# Altium integrated library Infineon_Power_DC-DC-Converter.IntLib: 32 symbols (part 2 of 3)
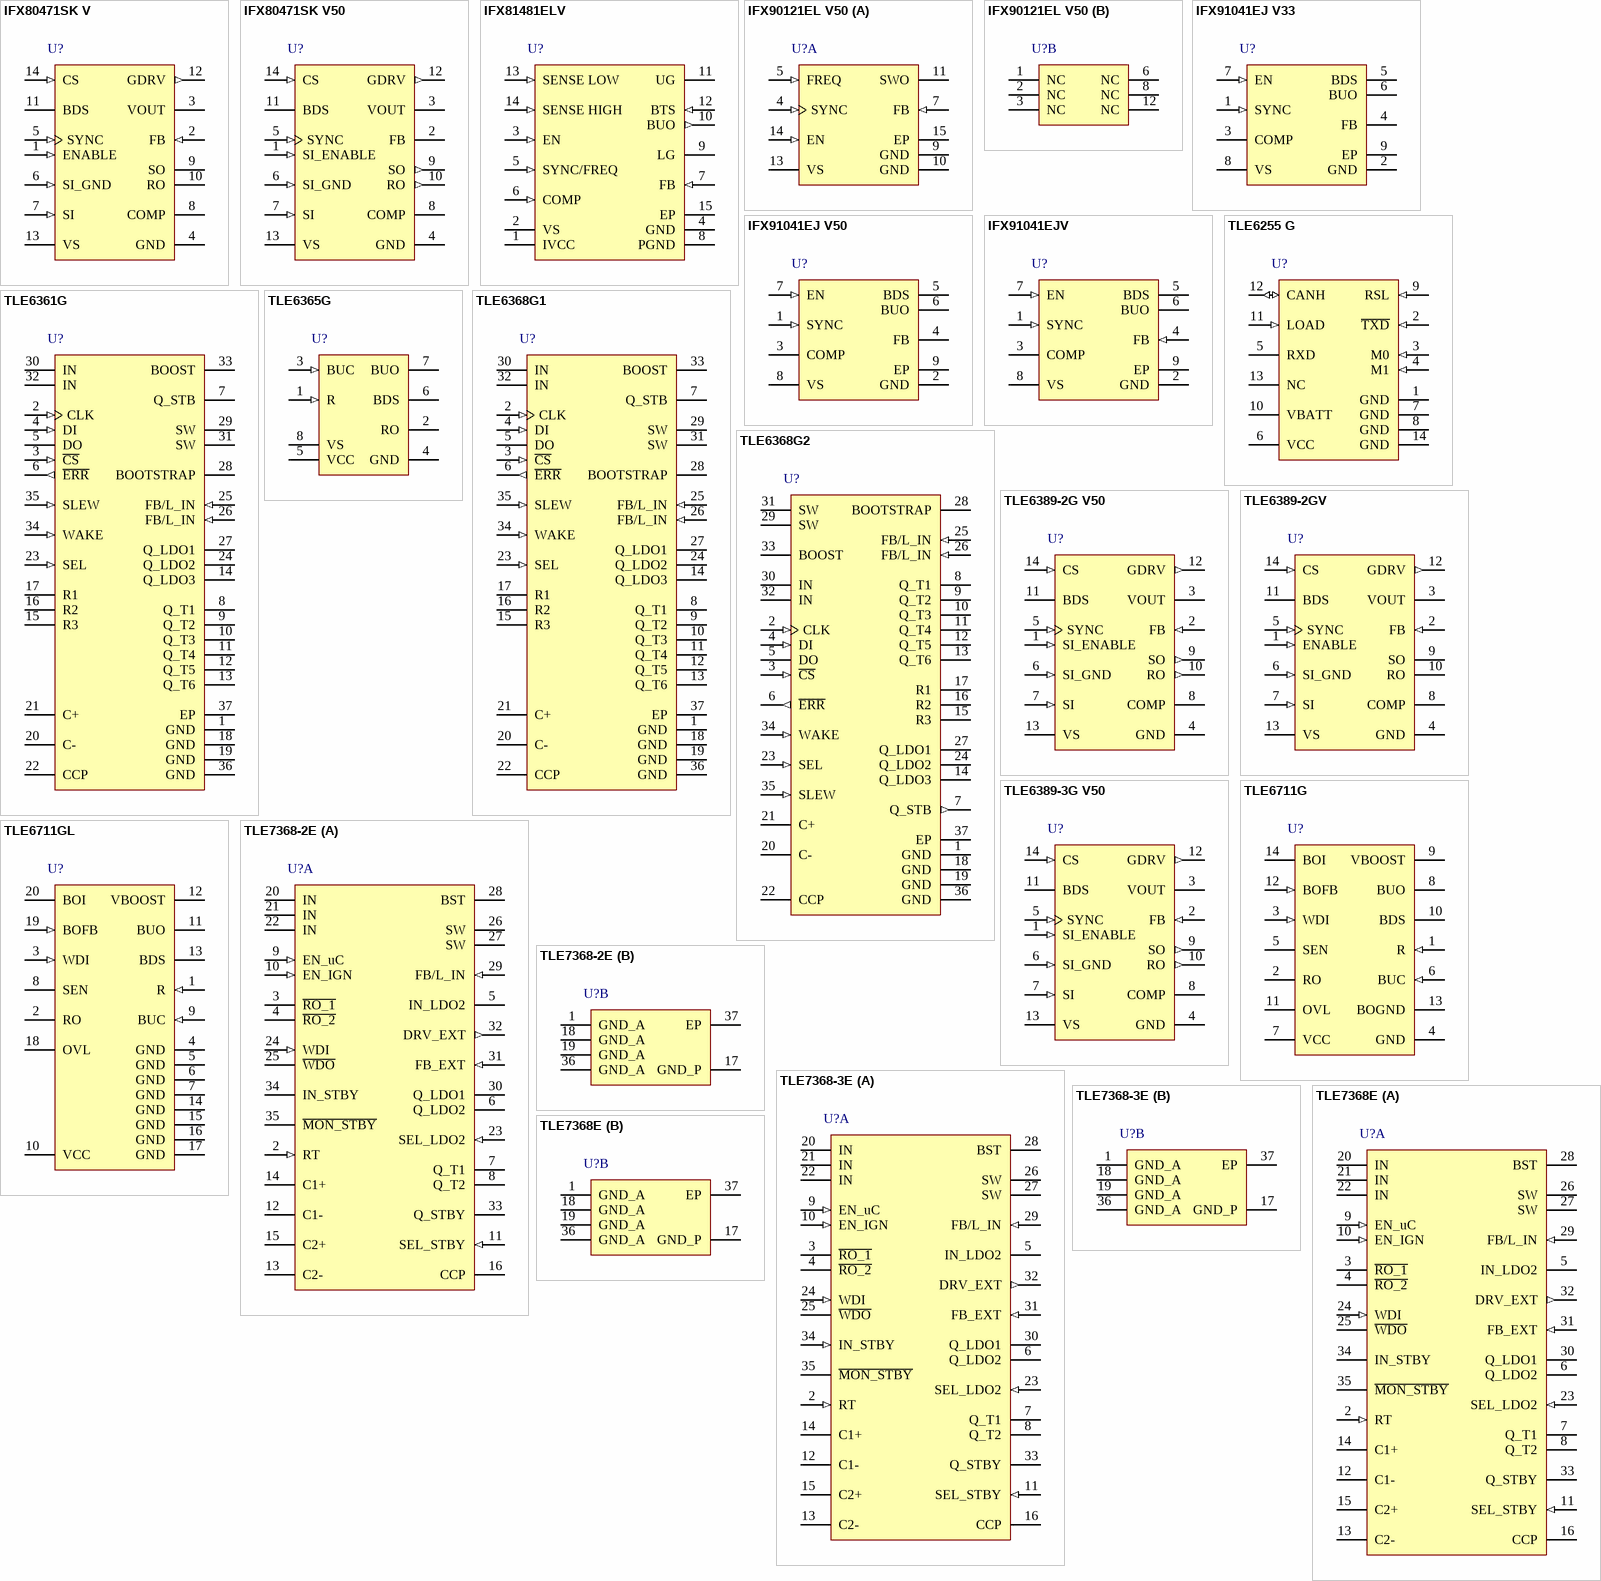
[diagram p2: symbols IFX80471SK V to TLE7368E]

## TLE6368G2
designator U?
Multi-Voltage Processor Power Supply, -40 to 150 degC, PG-DSO-36-26, Reel, Green; Manufacturer: Infineon; PartNumber: TLE6368G2; Green: TRUE; IQ (max): 1,500 mA; Iq (typ): 30 uA; Output: Linear (Buck Preregulator); Tolerance: 2%; VQ (max): 5 V, 3.3/2.6 V, 3.3/2.6 V; DatasheetVersion: Rev. 2.32; PackageVersion: Aug-09; PackageReference: PG-DSO-36-26; PackageDescription: 36-Pin Plastic (Green) Dual Small Outline Package, 15.9 x 11 mm Body, 0.65 mm Pitch; Supplier 1: Mouser; Supplier Part Number 1: 726-TLE6368G2; Supplier 2: Digi-Key; Supplier Part Number 2: TLE6368G2TR-ND; Supplier 3: Digi-Key; Supplier Part Number 3: TLE6368G2CT-ND; Supplier 4: Digi-Key; Supplier Part Number 4: TLE6368G2DKR-ND; Halogen-free: TRUE; Packing: Reel; Mounting Technology: Surface Mount; ComponentLink1Description: Manufacturer URL; ComponentLink1URL: http://www.infineon.com/; ComponentLink2Description: Datasheet; ComponentLink2URL: http://www.infineon.com/dgdl/TLE6368_G2_DS_rev2+32.pdf?folderId=db3a30431400ef68011421b54e2e0564&fileId=db3a30432239cccd01225a67e02b6c60&location=en.Products.Power_Management_ICs.DC_DC.DC_DC-Converter__Automotive_.DATASHEET.TLE6368_G2_DS_rev2 32.pdf; ComponentLink3Description: Package Specification; ComponentLink3URL: http://www.infineon.com/dgdl/ITS4880R_DS_11.pdf?folderId=db3a304412b407950112b408e8c90004&fileId=db3a304412b407950112b4295fb340cf&sId=db3a30433db6f09f013dc85930135028
footprint INF-PG-DSO-36-26_N (SOP, 36-Leads, Body 15.9x11mm, Pitch 0.65mm, Thermal Pad 16x6mm, IPC Medium Density)
footprint INF-PG-DSO-36-26_L (SOP, 36-Leads, Body 15.9x11mm, Pitch 0.65mm, Thermal Pad 16x6mm, IPC High Density)
footprint INF-PG-DSO-36-26_M (SOP, 36-Leads, Body 15.9x11mm, Pitch 0.65mm, Thermal Pad 16x6mm, IPC Low Density)
pins: 1 GND (power) "Ground; to reduce thermal resistance place cooling areas on PCB close to these pins. The GND pins are connected internally to the heat slug at the bottom.", 2 CLK (in) "SPI Interface Clock input; clocks the shift register; CLK has an internal active pull down and requires CMOS logic level inputs; see also chapter SPI", 3 ~{CS} (in) "SPI Interface chip select input; C\S\ is an active low input; serial communication is enabled by pulling the C\S\ terminal low; C\S\ input should only be switched when CLK is low; C\S\ has an internal active pull up and (See Datasheet)", 4 DI (in) "SPI Interface Data input; receives serial data from the control device; serial data transmitted to DI is a 16 bit control word with the Least Significant Bit (LSB) being transfE\R\R\ed first; the input has an active pull (See Datasheet)", 5 DO (hiz) "SPI Interface Data output; this tristate output transfers diagnosis data to the controlling device; the output will remain 3-stated unless the device is selected by a low on Chip-Select C\S\; see also the chapter SPI", 6 ~{ERR} (out) "E\R\R\or output; push-pull output. Monitors failures in parallel to the SPI diagnosis word, reset via SPI. E\R\R\ is an active low, latched output.", 7 Q_STB (out) "Standby Regulator Output; the output is active even when the buck regulator and all other circuitry is in off mode", 8 Q_T1 (power) "Voltage Tracker Output T1 tracked to Q_LDO1; bypass with a 1uF ceramic capacitor for stability. It is switched on and off by SPI command. Keep open, if not needed.", 9 Q_T2 (power) "Voltage Tracker Output T2 tracked to Q_LDO1; bypass with a 1uF ceramic capacitor for stability. It is switched on and off by SPI command. Keep open, if not needed.", 10 Q_T3 (power) "Voltage Tracker Output T3 tracked to Q_LDO1; bypass with a 1uF ceramic capacitor for stability. It is switched on and off by SPI command. Keep open, if not needed.", 11 Q_T4 (power) "Voltage Tracker Output T4 tracked to Q_LDO1; bypass with a 1uF ceramic capacitor for stability. It is switched on and off by SPI command. Keep open, if not needed.", 12 Q_T5 (power) "Voltage Tracker Output T5 tracked to Q_LDO1; bypass with a 1uF ceramic capacitor for stability. It is switched on and off by SPI command. Keep open, if not needed.", 13 Q_T6 (power) "Voltage Tracker Output T6 tracked to Q_LDO1; bypass with a 1uF ceramic capacitor for stability. It is switched on and off by SPI command. Keep open, if not needed.", 14 Q_LDO3 (power) "Voltage Regulator Output 3; 3.3V or 2.6V output; output voltage is selected by pin SEL (see also 2.2.2); For stability a ceramic capacitor of 470nF to GND is sufficient.", 15 R3 (oc) "Reset output 3, undervoltage detection for output Q_LDO3; open drain output; an external pull-up resistor of 10k ohm is required", 16 R2 (oc) "Reset output 2, undervoltage detection for output Q_LDO2; open drain output; an external pull-up resistor of 10k ohm is required", 17 R1 (oc) "Reset output 1, undervoltage detection for output Q_LDO1 and watchdog failure reset; open drain output; an external pull-up resistor of 10k ohm is required", 18 GND (power) "Ground; to reduce thermal resistance place cooling areas on PCB close to these pins. The GND pins are connected internally to the heat slug at the bottom.", 19 GND (power) "Ground; to reduce thermal resistance place cooling areas on PCB close to these pins. The GND pins are connected internally to the heat slug at the bottom.", 20 C- "Charge pump capacitor connection; Add the fly-capacitor of 100nF between C+ and C-", 21 C+ "Charge pump capacitor connection; Add the fly-capacitor of 100nF between C+ and C-", 22 CCP (power) "Charge Pump Storage Capacitor Output; Add the storage capacitor of 220nF between pin CCP and GND.", 23 SEL (in) "Select Pin for output voltage adjust of Q_LDO2 and Q_LDO3 (see also 2.2.2)", 24 Q_LDO2 (power) "Voltage Regulator Output 2; 3.3V or 2.6V output; output voltage is selected by pin SEL (see also 2.2.2); For stability a ceramic capacitor of 470nF to GND is sufficient.", 25 FB/L_IN (in), 26 FB/L_IN (in), 27 Q_LDO1 (power) "Voltage Regulator Output 1; 5V output; acts as the reference for the voltage trackers.The SPI and window watchdog logic is supplied from this voltage. For stability a ceramic capacitor of 470nF to GND is sufficient.", 28 BOOTSTRAP "Bootstrap Input; add the bootstrap capacitor between pin SW and pin Bootstrap, the capacitance value should be 2% of the Buck converter output capacitance", 29 SW (power) "Switch Output; connect both pins externally through short lines directly to the cathode of the catch diode and the Buck circuit inductance.", 30 IN (power) "Supply Voltage Input; connect both pins externally through short lines to the input filter/the input capacitors.", 31 SW (power) "Switch Output; connect both pins externally through short lines directly to the cathode of the catch diode and the Buck circuit inductance.", 32 IN (power) "Supply Voltage Input; connect both pins externally through short lines to the input filter/the input capacitors.", 33 BOOST (power) "Boost Input; for switching loss minimization connect a diode (cathode directly to boost pin) in series with a 100nF ceramic capacitor to the IN pin and from the anode of the diode to the buck converter output a 22ohm (See Datasheet)", 34 WAKE (in) "Wake Up Input; a positive voltage applied to this pin turns on the device", 35 SLEW (in) "Slew control Input; a resistor to GND defines the current slope in the buck switch for reduced EME", 36 GND (power) "Ground; to reduce thermal resistance place cooling areas on PCB close to these pins. The GND pins are connected internally to the heat slug at the bottom.", 37 EP

## TLE6389-2G V50
designator U?
Step-Down DC/DC Controller, -40 to 150 degC, PG-DSO-14-1, Reel, Green; Manufacturer: Infineon; PartNumber: TLE6389-2G V50; Green: TRUE; IQ (max): 2,300 mA; Iq (typ): 130 uA; Output: Buck Converter; Tolerance: 3%; VQ (max): 5V; DatasheetVersion: Rev. 2.1; PackageVersion: Apr-11; PackageReference: PG-DSO-14-1; PackageDescription: 14-Pin Plastic (Green) Dual Small Outline Package, 8.65 x 3.9 mm Body, 1.27 mm Pitch; Supplier 1: Mouser; Supplier Part Number 1: 726-TLE63892GV50; Supplier 2: Digi-Key; Supplier Part Number 2: TLE6389-2G V50-ND; Halogen-free: TRUE; Packing: Reel; Mounting Technology: Surface Mount; ComponentLink1Description: Manufacturer URL; ComponentLink1URL: http://www.infineon.com/; ComponentLink2Description: Datasheet; ComponentLink2URL: http://www.infineon.com/dgdl/TLE6389-2-3_DS_21.pdf?folderId=db3a304412b407950112b408e8c90004&fileId=db3a304412b407950112b43641bf65a6&location=en.Products.Power_Management_ICs.DC_DC.DC_DC-Converter__Automotive_.DATASHEET.TLE6389-2-3_DS_21.pdf; ComponentLink3Description: Package Specification; ComponentLink3URL: http://www.infineon.com/dgdl/DCDC-Controller-IFX80471-Data-Sheet-V10-Infineon.pdf?folderId=db3a304314dca3890115039cf70d0bf0&fileId=db3a30432e398416012e487ec6e42599
footprint INF-PG-DSO-14-1_N (SOP, 14-Leads, Body 8.65x3.9mm, Pitch 1.27mm, IPC Medium Density)
footprint INF-PG-DSO-14-1_L (SOP, 14-Leads, Body 8.65x3.9mm, Pitch 1.27mm, IPC High Density)
footprint INF-PG-DSO-14-1_M (SOP, 14-Leads, Body 8.65x3.9mm, Pitch 1.27mm, IPC Low Density)
pins: 1 SI_ENABLE (in) "Active-High enable input (only at 5V version, TLE6389-2 GV50 and TLE6389-3 GV50) for SI_GND input. SI_GND is switched to high impedance when SI_ENABLE is low. High level at SI_ENABLE connects SI_GND to GND with low impedance.(See Datasheet)", 2 FB (in) "Feedback input. 1. For adjustable version (-2GV) connect this pin to an external voltage divider from the output to GND (see the determining the output voltage, application section).2. At the 5V fixed output voltage version (See Datasheet)", 3 VOUT (power) "Buck output voltage input. Input for the internal supply. Connect always to the output of the buck converter (output capacitor).", 4 GND (power) "Ground connection. Analog signal ground.", 5 SYNC (in) "Input for external frequency synchronization. An external clock signal connected to this pin allows switching frequency synchronization of the device. The internal oscillator is clocked then by the frequency applied at the (See Datasheet)", 6 SI_GND (in) "SI-Ground input. Ground connection for SI comparator resistor divider. Depending on SI_ENABLE this input is switched to high impedance or low ohmic to GND.", 7 SI (in) "Sense comparator input. Input of the low-battery comparator. This input is compared to an internal 1.25V reference where SO gives the result of the comparison. Can be used for any comparison, not necessarily as battery sense.", 8 COMP "Compensation input.Connect via RC-compensation network to GND.", 9 SO (out) "Sense comparator output. Pull down structure with an internal 20kohm pull up resistor to VOUT at the 5V version (TLE6389-2 GV50 and TLE6389-3 GV50).", 10 RO (out) "Reset output. Pull down structure with an internal 20kohm pull up resistor to VOUT at the 5V version (TLE6389-2 GV50 and TLE6389-3 GV50).", 11 BDS (power) "Buck driver supply input. Connect a ceramic capacitor between BDS and VS to generate clamped  gate-source voltage to supply the driver of the PMOS power stage.", 12 GDRV (out) "Gate drive output. Connect to the gate of the external P-Channel MOSFET. The voltage at  GDRV swings between the levels of VS and BDS.", 13 VS (power) "Device supply input. Connect a 220nF ceramic cap close to the pin in addition to the low ESR  tantalum input capacitance.", 14 CS (in) "Current-sense input. Connect current-sense resistor between VS and CS. The voltage drop over the sense-resistor determines the peak current flowing in the buck circuit. The external MOSFET is turned off when the peak current (See Datasheet)"

## TLE6389-2GV
designator U?
Step-Down DC/DC Controller, -40 to 150 degC, PG-DSO-14-1, Reel, Green; Manufacturer: Infineon; PartNumber: TLE6389-2GV; Green: TRUE; IQ (max): 2,300 mA; Iq (typ): 130 uA; Output: Buck Converter; Tolerance: 3%; VQ (max): adjustable; DatasheetVersion: Rev. 2.1; PackageVersion: Apr-11; PackageReference: PG-DSO-14-1; PackageDescription: 14-Pin Plastic (Green) Dual Small Outline Package, 8.65 x 3.9 mm Body, 1.27 mm Pitch; Supplier 1: Mouser; Supplier Part Number 1: 726-TLE63892GV; Supplier 2: Digi-Key; Supplier Part Number 2: TLE6389-2GVTR-ND; Supplier 3: Digi-Key; Supplier Part Number 3: TLE6389-2GVCT-ND; Supplier 4: Digi-Key; Supplier Part Number 4: TLE6389-2GVDKR-ND; Halogen-free: TRUE; Packing: Reel; Mounting Technology: Surface Mount; ComponentLink1Description: Manufacturer URL; ComponentLink1URL: http://www.infineon.com/; ComponentLink2Description: Datasheet; ComponentLink2URL: http://www.infineon.com/dgdl/TLE6389-2-3_DS_21.pdf?folderId=db3a304412b407950112b408e8c90004&fileId=db3a304412b407950112b43641bf65a6&location=en.Products.Power_Management_ICs.DC_DC.DC_DC-Converter__Automotive_.DATASHEET.TLE6389-2-3_DS_21.pdf; ComponentLink3Description: Package Specification; ComponentLink3URL: http://www.infineon.com/dgdl/DCDC-Controller-IFX80471-Data-Sheet-V10-Infineon.pdf?folderId=db3a304314dca3890115039cf70d0bf0&fileId=db3a30432e398416012e487ec6e42599
footprint INF-PG-DSO-14-1_N (SOP, 14-Leads, Body 8.65x3.9mm, Pitch 1.27mm, IPC Medium Density)
footprint INF-PG-DSO-14-1_L (SOP, 14-Leads, Body 8.65x3.9mm, Pitch 1.27mm, IPC High Density)
footprint INF-PG-DSO-14-1_M (SOP, 14-Leads, Body 8.65x3.9mm, Pitch 1.27mm, IPC Low Density)
pins: 1 ENABLE (in) "Active-High enable input (only at adjustable version, TLE6389-2 GV) for the device. The device is shut down when ENABLE is driven low. In this shut downmode the reference, the output and the external MOSFET are turned off.  (See Datasheet)", 2 FB (in) "Feedback input. 1. For adjustable version (-2GV) connect this pin to an external voltage divider from the output to GND (see the determining the output voltage, application section).2. At the 5V fixed output voltage version (See Datasheet)", 3 VOUT (power) "Buck output voltage input. Input for the internal supply. Connect always to the output of the buck converter (output capacitor).", 4 GND (power) "Ground connection. Analog signal ground.", 5 SYNC (in) "Input for external frequency synchronization. An external clock signal connected to this pin allows switching frequency synchronization of the device. The internal oscillator is clocked then by the frequency applied at the (See Datasheet)", 6 SI_GND (in) "SI-Ground input. Ground connection for SI comparator resistor divider. Depending on SI_ENABLE this input is switched to high impedance or low ohmic to GND.", 7 SI (in) "Sense comparator input. Input of the low-battery comparator. This input is compared to an internal 1.25V reference where SO gives the result of the comparison. Can be used for any comparison, not necessarily as battery sense.", 8 COMP "Compensation input.Connect via RC-compensation network to GND.", 9 SO (oc) "Sense comparator output. Open drain output from SI comparator at the adjustable version (TLE6389-2 GV),", 10 RO (oc) "Reset output. Open drain output from undervoltage reset comparator at the adjustable version (TLE6389-2 GV),", 11 BDS (power) "Buck driver supply input. Connect a ceramic capacitor between BDS and VS to generate clamped  gate-source voltage to supply the driver of the PMOS power stage.", 12 GDRV (out) "Gate drive output. Connect to the gate of the external P-Channel MOSFET. The voltage at  GDRV swings between the levels of VS and BDS.", 13 VS (power) "Device supply input. Connect a 220nF ceramic cap close to the pin in addition to the low ESR  tantalum input capacitance.", 14 CS (in) "Current-sense input. Connect current-sense resistor between VS and CS. The voltage drop over the sense-resistor determines the peak current flowing in the buck circuit. The external MOSFET is turned off when the peak current (See Datasheet)"

## TLE6389-3G V50
designator U?
Step-Down DC/DC Controller, -40 to 150 degC, PG-DSO-14-1, Reel, Green; Manufacturer: Infineon; PartNumber: TLE6389-3G V50; Green: TRUE; IQ (max): 2,300 mA; Iq (typ): 130 uA; Output: Buck Converter; Tolerance: 3%; VQ (max): 5V; DatasheetVersion: Rev. 2.1; PackageVersion: Apr-11; PackageReference: PG-DSO-14-1; PackageDescription: 14-Pin Plastic (Green) Dual Small Outline Package, 8.65 x 3.9 mm Body, 1.27 mm Pitch; Supplier 1: Mouser; Supplier Part Number 1: 726-TLE63893GV50; Supplier 2: Digi-Key; Supplier Part Number 2: TLE6389-3G V50TR-ND; Supplier 3: Digi-Key; Supplier Part Number 3: TLE6389-3G V50CT-ND; Supplier 4: Digi-Key; Supplier Part Number 4: TLE6389-3G V50DKR-ND; Halogen-free: TRUE; Packing: Reel; Mounting Technology: Surface Mount; ComponentLink1Description: Manufacturer URL; ComponentLink1URL: http://www.infineon.com/; ComponentLink2Description: Datasheet; ComponentLink2URL: http://www.infineon.com/dgdl/TLE6389-2-3_DS_21.pdf?folderId=db3a304412b407950112b408e8c90004&fileId=db3a304412b407950112b43641bf65a6&location=en.Products.Power_Management_ICs.DC_DC.DC_DC-Converter__Automotive_.DATASHEET.TLE6389-2-3_DS_21.pdf; ComponentLink3Description: Package Specification; ComponentLink3URL: http://www.infineon.com/dgdl/DCDC-Controller-IFX80471-Data-Sheet-V10-Infineon.pdf?folderId=db3a304314dca3890115039cf70d0bf0&fileId=db3a30432e398416012e487ec6e42599
footprint INF-PG-DSO-14-1_N (SOP, 14-Leads, Body 8.65x3.9mm, Pitch 1.27mm, IPC Medium Density)
footprint INF-PG-DSO-14-1_L (SOP, 14-Leads, Body 8.65x3.9mm, Pitch 1.27mm, IPC High Density)
footprint INF-PG-DSO-14-1_M (SOP, 14-Leads, Body 8.65x3.9mm, Pitch 1.27mm, IPC Low Density)
pins: 1 SI_ENABLE (in) "Active-High enable input (only at 5V version, TLE6389-2 GV50 and TLE6389-3 GV50) for SI_GND input. SI_GND is switched to high impedance when SI_ENABLE is low. High level at SI_ENABLE connects SI_GND to GND with low impedance.(See Datasheet)", 2 FB (in) "Feedback input. 1. For adjustable version (-2GV) connect this pin to an external voltage divider from the output to GND (see the determining the output voltage, application section).2. At the 5V fixed output voltage version (See Datasheet)", 3 VOUT (power) "Buck output voltage input. Input for the internal supply. Connect always to the output of the buck converter (output capacitor).", 4 GND (power) "Ground connection. Analog signal ground.", 5 SYNC (in) "Input for external frequency synchronization. An external clock signal connected to this pin allows switching frequency synchronization of the device. The internal oscillator is clocked then by the frequency applied at the (See Datasheet)", 6 SI_GND (in) "SI-Ground input. Ground connection for SI comparator resistor divider. Depending on SI_ENABLE this input is switched to high impedance or low ohmic to GND.", 7 SI (in) "Sense comparator input. Input of the low-battery comparator. This input is compared to an internal 1.25V reference where SO gives the result of the comparison. Can be used for any comparison, not necessarily as battery sense.", 8 COMP "Compensation input.Connect via RC-compensation network to GND.", 9 SO (out) "Sense comparator output. Pull down structure with an internal 20kohm pull up resistor to VOUT at the 5V version (TLE6389-2 GV50 and TLE6389-3 GV50).", 10 RO (out) "Reset output. Pull down structure with an internal 20kohm pull up resistor to VOUT at the 5V version (TLE6389-2 GV50 and TLE6389-3 GV50).", 11 BDS (power) "Buck driver supply input. Connect a ceramic capacitor between BDS and VS to generate clamped  gate-source voltage to supply the driver of the PMOS power stage.", 12 GDRV (out) "Gate drive output. Connect to the gate of the external P-Channel MOSFET. The voltage at  GDRV swings between the levels of VS and BDS.", 13 VS (power) "Device supply input. Connect a 220nF ceramic cap close to the pin in addition to the low ESR  tantalum input capacitance.", 14 CS (in) "Current-sense input. Connect current-sense resistor between VS and CS. The voltage drop over the sense-resistor determines the peak current flowing in the buck circuit. The external MOSFET is turned off when the peak current (See Datasheet)"

## TLE6711G
designator U?
Multifunctional Voltage Regulator and Watchdog, -40 to 150 degC, PG-DSO-14-1, Reel, Green; Manufacturer: Infineon; PartNumber: TLE6711G; Green: TRUE; IQ (max): 250 mA; Iq (typ): 1,500 uA; Output: Boost/Buck Conv.; Tolerance: 2%; VQ (max): 5V; DatasheetVersion: Rev. 3.4; PackageVersion: Apr-11; PackageReference: PG-DSO-14-1; PackageDescription: 14-Pin Plastic (Green) Dual Small Outline Package, 8.65 x 3.9 mm Body, 1.27 mm Pitch; Supplier 1: Mouser; Supplier Part Number 1: 726-TLE6711G; Supplier 2: Digi-Key; Supplier Part Number 2: TLE6711GINTR-ND; Supplier 3: Digi-Key; Supplier Part Number 3: TLE6711GINCT-ND; Supplier 4: Digi-Key; Supplier Part Number 4: TLE6711GINDKR-ND; Halogen-free: TRUE; Packing: Reel; Mounting Technology: Surface Mount; ComponentLink1Description: Manufacturer URL; ComponentLink1URL: http://www.infineon.com/; ComponentLink2Description: Datasheet; ComponentLink2URL: http://www.infineon.com/dgdl/TLE6711_DS_34%5B1%5D.pdf?folderId=db3a304318f3fe290118f5a433570040&fileId=db3a30431c48a312011c564dbfe20282&location=en.Products.Power_Management_ICs.DC_DC.DC_DC-Converter__Automotive_.DATASHEET.TLE6711_DS_34[1].pdf; ComponentLink3Description: Package Specification; ComponentLink3URL: http://www.infineon.com/dgdl/DCDC-Controller-IFX80471-Data-Sheet-V10-Infineon.pdf?folderId=db3a304314dca3890115039cf70d0bf0&fileId=db3a30432e398416012e487ec6e42599
footprint INF-PG-DSO-14-1_N (SOP, 14-Leads, Body 8.65x3.9mm, Pitch 1.27mm, IPC Medium Density)
footprint INF-PG-DSO-14-1_L (SOP, 14-Leads, Body 8.65x3.9mm, Pitch 1.27mm, IPC High Density)
footprint INF-PG-DSO-14-1_M (SOP, 14-Leads, Body 8.65x3.9mm, Pitch 1.27mm, IPC Low Density)
pins: 1 R (in) "Reference Input; an external resistor from this pin to GND determines the  reference current and the oscillator frequency", 2 RO (oc) "Reset Output; open drain output from reset comparator with an internal pull-up  resistor", 3 WDI (in) "Watchdog Input; input for the watchdog control signal from the controller", 4 GND (power) "Ground; analog signal ground", 5 SEN (oc) "System Enable Output; open drain output from Watchdog fail-circuit with an  internal pull-up resistor", 6 BUC (in) "Buck-Converter Compensation Input; output of internal error amplifier; for  loop-compensation connect an external R-C-series combination to GND", 7 VCC (power) "Supply Voltage Output; buck converter output; external blocking capacitor  necessary", 8 BUO (power) "Buck Converter Output; source of the integrated power-DMOS", 9 VBOOST (power) "Boost Converter Input; input supply voltage of the IC; coming from the boost  converter output voltage; buck converter input voltage", 10 BDS (power) "Buck Driver Supply Input; voltage to drive the buck converter powerstage", 11 OVL (oc) "Boost Status Output; open drain output from boost PWM comparator", 12 BOFB (in) "Boost Converter Feedback Input; connect boost voltage divider to this pin;  internal reference is the boost feedback threshold VBOFBTH", 13 BOGND (power) "Boost-Ground; power signal ground; source of boost converter power-DMOS", 14 BOI "Boost Converter Input; drain of the integrated buck converter power-DMOS"

## TLE6711GL
designator U?
Multifunctional Voltage Regulator and Watchdog, -40 to 150 degC, PG-DSO-20-36, Reel, Green; Manufacturer: Infineon; PartNumber: TLE6711GL; Green: TRUE; IQ (max): 250 mA; Iq (typ): 1,500 uA; Output: Boost/Buck Conv.; Tolerance: 2%; VQ (max): 5V; DatasheetVersion: Rev. 3.4; PackageVersion: Aug-07; PackageReference: PG-DSO-20-36; PackageDescription: 20-Pin Plastic (Green) Dual Small Outline Package, 12.7 x 7.5 mm Body, 1.27 mm Pitch; Supplier 1: Mouser; Supplier Part Number 1: 726-TLE6711GL; Supplier 2: Digi-Key; Supplier Part Number 2: TLE6711GL-ND; Halogen-free: TRUE; Packing: Reel; Mounting Technology: Surface Mount; ComponentLink1Description: Manufacturer URL; ComponentLink1URL: http://www.infineon.com/; ComponentLink2Description: Datasheet; ComponentLink2URL: http://www.infineon.com/dgdl/TLE6711_DS_34%5B1%5D.pdf?folderId=db3a304318f3fe290118f5a433570040&fileId=db3a30431c48a312011c564dbfe20282&location=en.Products.Power_Management_ICs.DC_DC.DC_DC-Converter__Automotive_.DATASHEET.TLE6711_DS_34[1].pdf; ComponentLink3Description: Package Specification; ComponentLink3URL: http://www.infineon.com/dgdl/TLE6711_DS_34%5B1%5D.pdf?folderId=db3a304318f3fe290118f5a433570040&fileId=db3a30431c48a312011c564dbfe20282&location=en.Products.Power_Management_ICs.DC_DC.DC_DC-Converter__Automotive_.DATASHEET.TLE6711_DS_34[1].pdf
footprint INF-PG-DSO-20-36_N (SOP, 20-Leads, Body 12.7x7.5mm, Pitch 1.27mm, IPC Medium Density)
footprint INF-PG-DSO-20-36_L (SOP, 20-Leads, Body 12.7x7.5mm, Pitch 1.27mm, IPC High Density)
footprint INF-PG-DSO-20-36_M (SOP, 20-Leads, Body 12.7x7.5mm, Pitch 1.27mm, IPC Low Density)
pins: 1 R (in) "Reference Input; an external resistor from this pin to GND determines the reference current and the oscillator frequency", 2 RO (oc) "Reset Output; open drain output from reset comparator with an internal pull-up resistor", 3 WDI (in) "Watchdog Input; input for the watchdog control signal from the controller", 4 GND (power) "Ground; analog signal ground", 5 GND (power) "Ground; analog signal ground", 6 GND (power) "Ground; analog signal ground", 7 GND (power) "Ground; analog signal ground", 8 SEN (oc) "System Enable Output; open drain output from Watchdog fail-circuit with an internal pull-up resistor", 9 BUC (in) "Buck-Converter Compensation Input; output of internal error amplifier; for loop-compensation connect an external R-C-series combination to GND", 10 VCC (power) "Supply Voltage Output; buck converter output; external blocking capacitor necessary", 11 BUO (power) "Buck Converter Output; source of the integrated power-DMOS", 12 VBOOST (power) "Boost Converter Input; input supply voltage of the IC; coming from the boost converter output voltage; buck converter input voltage", 13 BDS (power) "Buck Driver Supply Input; voltage to drive the buck converter powerstage", 14 GND (power) "Ground; analog signal ground", 15 GND (power) "Ground; analog signal ground", 16 GND (power) "Ground; analog signal ground", 17 GND (power) "Ground; analog signal ground", 18 OVL (oc) "Boost Status Output; open drain output from boost PWM comparator", 19 BOFB (in) "Boost Converter Feedback Input; connect boost voltage divider to this pin; internal reference is the boost feedback threshold VBOFBTH", 20 BOI "Boost Converter Input; drain of the integrated buck converter power-DMOS"

## TLE7368-2E
designator U?
Next Generation Micro Controller Supply, -40 to 150 degC, PG-DSO-36-24, Reel, Green; Manufacturer: Infineon; PartNumber: TLE7368-2E; Green: TRUE; IQ (max): 2,500 mA; Iq (typ): 120 uA; Output: Linear (Buck Preregulator); Tolerance: 2%; VQ (max): 5 V, 3.3/2.6 V, 1.2 V, 1/2.6 V; DatasheetVersion: Rev. 2.1; PackageVersion: Apr-09; PackageReference: PG-DSO-36-24; PackageDescription: 36-Pin Plastic (Green) Dual Small Outline Package, 12.7 x 7.5 mm Body, 0.65 mm Pitch; Supplier 1: Mouser; Supplier Part Number 1: 726-TLE7368-2E; Supplier 2: Digi-Key; Supplier Part Number 2: TLE7368-2E-ND; Halogen-free: TRUE; Packing: Reel; Mounting Technology: Surface Mount; ComponentLink1Description: Manufacturer URL; ComponentLink1URL: http://www.infineon.com/; ComponentLink2Description: Datasheet; ComponentLink2URL: http://www.infineon.com/dgdl/DCDC-Converter-TLE7368-Data-Sheet-V21-Infineon.pdf?folderId=db3a304314dca3890115039cf70d0bf0&fileId=db3a3043163797a601163918026f01cf&location=en.Products.Power_Management_ICs.DC_DC.DC_DC-Converter__Automotive_.DATASHEET.DCDC-Converter-TLE7368-Data-Sheet-V21-Infineon.pdf; ComponentLink3Description: Package Specification; ComponentLink3URL: http://www.infineon.com/dgdl/PG-DSO-36-24%2C-38%2C-41%2C-42%2C-50-Package_Overview.pdf?folderId=db3a304316f66ee801179ce26c705f4a&fileId=db3a304319c6f18c011a3ac6ea200605
footprint INF-PG-DSO-36-24_N (SOP, 36-Leads, Body 12.7x7.5mm, Pitch 0.65mm, Thermal Pad 7x5.1mm, IPC Medium Density)
footprint INF-PG-DSO-36-24_L (SOP, 36-Leads, Body 12.7x7.5mm, Pitch 0.65mm, Thermal Pad 7x5.1mm, IPC High Density)
footprint INF-PG-DSO-36-24_M (SOP, 36-Leads, Body 12.7x7.5mm, Pitch 0.65mm, Thermal Pad 7x5.1mm, IPC Low Density)
part A pins: 2 RT (in) "Reset and watchdog timing pin; Connect a ceramic capacitor to GND to determine the time base for the reset delay circuits and the watchdog cycle time", 3 ~{RO_1} (oc) "Reset output Q_LDO1; Open drain output, active low. Connect an external 10 k ohm pull-up resistor to microcontroller I/O voltage.", 4 ~{RO_2} (oc) "Reset output Q_LDO2 and FB_EXT; Open drain output, active low. Connect an external 10 k ohm pull-up resistor to microcontroller I/O voltage", 5 IN_LDO2 (power) "LDO2 input; Connect this pin straight to the Buck converter output or add a dropper in between to reduce power dissipation on the chip.", 6 Q_LDO2 (power) "Voltage regulator 2 output; 3.3 V or 2.6 V, depending on the state of SEL_LDO2. Block to GND with capacitor for stable regulator operation; selection of capacitor CQ_LDO2 according to Chapter 4.4 and Chapter 6.", 7 Q_T1 (power) "Tracking regulator 1 output; Block to GND with capacitor for stable regulator operation; selection of capacitor CQ_T1 according to Chapter 4.4 and Chapter 6.", 8 Q_T2 (power) "Tracking regulator 2 output; Block to GND with capacitor for stable regulator operation; selection of capacitor CQ_T2 according to Chapter 4.4 and Chapter 6.", 9 EN_uC (in) "Enable input microcontroller; High level enables / low level disables the IC except the stand-by regulators; Integrated pull-down resistor", 10 EN_IGN (in) "Enable input ignition line; High level enables / low level disables the IC except the stand-by regulators; Integrated pull-down resistor", 11 SEL_STBY (in) "Selection input for stand-by regulator; Connect to GND to select 2.6 V output voltage for Q_STBY; Connect straight to Q_STBY to select 1.0 V output voltage for Q_STBY", 12 C1- "Charge pump negative #1; Connect a ceramic capacitor 100 nF, to C1+", 13 C2- "Charge pump negative #2; Connect a ceramic capacitor 100 nF, toC2+", 14 C1+ "Charge pump positive #1; Connect a ceramic capacitor 100 nF, to C1-", 15 C2+ "Charge pump positive #2; Connect a ceramic capacitor 100 nF, to C2-", 16 CCP (power) "Charge pump output; Connect a ceramic capacitor, 220 nF, to GND; Used for internal IC supply, do not use for other circuitry.", 20 IN (power) "Buck regulator input; Connect to a pi-filter (or if not used to battery) with short lines; connect filter capacitors in any case with short lines; connect a small ceramic directly at the pin; For details refer to Chapter 6. (See Datasheet)", 21 IN (power) "Buck regulator input; Connect to a pi-filter (or if not used to battery) with short lines; connect filter capacitors in any case with short lines; connect a small ceramic directly at the pin; For details refer to Chapter 6. (See Datasheet)", 22 IN (power) "Buck regulator input; Connect to a pi-filter (or if not used to battery) with short lines; connect filter capacitors in any case with short lines; connect a small ceramic directly at the pin; For details refer to Chapter 6. (See Datasheet)", 23 SEL_LDO2 (in) "Selection input LDO2; Connect to GND to select 2.6 V output voltage for LDO2; Connect straight to Q_LDO2 to select 3.3 V output voltage for LDO2.", 24 WDI (in) "Window Watchdog input; Apply a watchdog trigger signal to this pin", 25 ~{WDO} (oc) "Window Watchdog output; Open drain output, active low, connect external 10 k ohm pull-up resistor to microcontroller I/O voltage", 26 SW (power) "Buck power stage’s output; Connect both pins directly, on short lines, to the Buck converter circuit, i.e. the catch diode and the Buck inductance", 27 SW (power) "Buck power stage’s output; Connect both pins directly, on short lines, to the Buck converter circuit, i.e. the catch diode and the Buck inductance", 28 BST (power) "Bootstrap driver supply input; Connect the buck power stage’s driver supply capacitor to the SW pins;For capacitor selection please refer to Chapter 6.", 29 FB/L_IN (in) "Buck converter feedback input plus input for LDO1 and trackers; Connect the output of the buck converter circuit with short lines to these pins; For Buck output capacitor selection please refer to Chapter 6.", 30 Q_LDO1 (power) "Voltage regulator 1 output; 5 V output; Block to GND with capacitor for stable regulator operation; Selection of capacitor CQ_LDO1 according to Chapter 4.4 and Chapter 6.", 31 FB_EXT (in) "External regulator feedback input; Feedback input of control loop for the external power stage regulator. Connect to the emitter of the regulating transistor; Block to GND with capacitor for stable regulator operation; (See Datasheet)", 32 DRV_EXT (out) "Bipolar power stage driver output; Connect the base of an external NPN transistor directly to this pin; Regarding choice of the external power stage refer to Chapter 6.", 33 Q_STBY (power) "Stand-by regulator output; Output voltage depending on the state of SEL_STBY; Block to GND with capacitor for stable regulator operation; Selection of capacitor CQ_STBY according to Chapter 4.4 and Chapter 6.", 34 IN_STBY (power) "Input to stand-by regulator; Always connect the reverse polarity protected battery line to this pin; Input to all IC internal biasing circuits; Block to GND directly at the IC with ceramic capacitor; For proper choice of (See Datasheet)", 35 ~{MON_STBY} (oc) "Monitoring output for stand-by regulator; power fail active low output with special timing, open drain, connect external pull-up resistor."
part B pins: 1 GND_A (power) "Analog ground connection; Connect to heatslug resp. exposed pad.", 17 GND_P (power) "Power ground; Exclusive GND connection of charge pump; Connect this pin to the power ground star point on the PCB.", 18 GND_A (power) "Analog ground connection; Connect to exposed pad.", 19 GND_A (power) "Analog ground connection; Connect to exposed pad.", 36 GND_A (power) "Analog ground connection; Connect to exposed pad.", 37 EP (power)

## TLE7368-3E
designator U?
Next Generation Micro Controller Supply, -40 to 150 degC, PG-DSO-36-24, Reel, Green; Manufacturer: Infineon; PartNumber: TLE7368-3E; Green: TRUE; IQ (max): 2,500 mA; Iq (typ): 120 uA; Output: Linear (Buck Preregulator); Tolerance: 2%; VQ (max): 5 V, 3.3/2.6 V, 1.3 V, 1/2.6 V; DatasheetVersion: Rev. 2.1; PackageVersion: Apr-09; PackageReference: PG-DSO-36-24; PackageDescription: 36-Pin Plastic (Green) Dual Small Outline Package, 12.7 x 7.5 mm Body, 0.65 mm Pitch; Supplier 1: Mouser; Supplier Part Number 1: 726-TLE7368-3E; Supplier 2: Digi-Key; Supplier Part Number 2: TLE7368-3ETR-ND; Supplier 3: Digi-Key; Supplier Part Number 3: TLE7368-3ECT-ND; Supplier 4: Digi-Key; Supplier Part Number 4: TLE7368-3EDKR-ND; Halogen-free: TRUE; Packing: Reel; Mounting Technology: Surface Mount; ComponentLink1Description: Manufacturer URL; ComponentLink1URL: http://www.infineon.com/; ComponentLink2Description: Datasheet; ComponentLink2URL: http://www.infineon.com/dgdl/DCDC-Converter-TLE7368-Data-Sheet-V21-Infineon.pdf?folderId=db3a304314dca3890115039cf70d0bf0&fileId=db3a3043163797a601163918026f01cf&location=en.Products.Power_Management_ICs.DC_DC.DC_DC-Converter__Automotive_.DATASHEET.DCDC-Converter-TLE7368-Data-Sheet-V21-Infineon.pdf; ComponentLink3Description: Package Specification; ComponentLink3URL: http://www.infineon.com/dgdl/PG-DSO-36-24%2C-38%2C-41%2C-42%2C-50-Package_Overview.pdf?folderId=db3a304316f66ee801179ce26c705f4a&fileId=db3a304319c6f18c011a3ac6ea200605
footprint INF-PG-DSO-36-24_N (SOP, 36-Leads, Body 12.7x7.5mm, Pitch 0.65mm, Thermal Pad 7x5.1mm, IPC Medium Density)
footprint INF-PG-DSO-36-24_L (SOP, 36-Leads, Body 12.7x7.5mm, Pitch 0.65mm, Thermal Pad 7x5.1mm, IPC High Density)
footprint INF-PG-DSO-36-24_M (SOP, 36-Leads, Body 12.7x7.5mm, Pitch 0.65mm, Thermal Pad 7x5.1mm, IPC Low Density)
part A pins: 2 RT (in) "Reset and watchdog timing pin; Connect a ceramic capacitor to GND to determine the time base for the reset delay circuits and the watchdog cycle time", 3 ~{RO_1} (oc) "Reset output Q_LDO1; Open drain output, active low. Connect an external 10 k ohm pull-up resistor to microcontroller I/O voltage.", 4 ~{RO_2} (oc) "Reset output Q_LDO2 and FB_EXT; Open drain output, active low. Connect an external 10 k ohm pull-up resistor to microcontroller I/O voltage", 5 IN_LDO2 (power) "LDO2 input; Connect this pin straight to the Buck converter output or add a dropper in between to reduce power dissipation on the chip.", 6 Q_LDO2 (power) "Voltage regulator 2 output; 3.3 V or 2.6 V, depending on the state of SEL_LDO2. Block to GND with capacitor for stable regulator operation; selection of capacitor CQ_LDO2 according to Chapter 4.4 and Chapter 6.", 7 Q_T1 (power) "Tracking regulator 1 output; Block to GND with capacitor for stable regulator operation; selection of capacitor CQ_T1 according to Chapter 4.4 and Chapter 6.", 8 Q_T2 (power) "Tracking regulator 2 output; Block to GND with capacitor for stable regulator operation; selection of capacitor CQ_T2 according to Chapter 4.4 and Chapter 6.", 9 EN_uC (in) "Enable input microcontroller; High level enables / low level disables the IC except the stand-by regulators; Integrated pull-down resistor", 10 EN_IGN (in) "Enable input ignition line; High level enables / low level disables the IC except the stand-by regulators; Integrated pull-down resistor", 11 SEL_STBY (in) "Selection input for stand-by regulator; Connect to GND to select 2.6 V output voltage for Q_STBY; Connect straight to Q_STBY to select 1.0 V output voltage for Q_STBY", 12 C1- "Charge pump negative #1; Connect a ceramic capacitor 100 nF, to C1+", 13 C2- "Charge pump negative #2; Connect a ceramic capacitor 100 nF, toC2+", 14 C1+ "Charge pump positive #1; Connect a ceramic capacitor 100 nF, to C1-", 15 C2+ "Charge pump positive #2; Connect a ceramic capacitor 100 nF, to C2-", 16 CCP (power) "Charge pump output; Connect a ceramic capacitor, 220 nF, to GND; Used for internal IC supply, do not use for other circuitry.", 20 IN (power) "Buck regulator input; Connect to a pi-filter (or if not used to battery) with short lines; connect filter capacitors in any case with short lines; connect a small ceramic directly at the pin; For details refer to Chapter 6. (See Datasheet)", 21 IN (power) "Buck regulator input; Connect to a pi-filter (or if not used to battery) with short lines; connect filter capacitors in any case with short lines; connect a small ceramic directly at the pin; For details refer to Chapter 6. (See Datasheet)", 22 IN (power) "Buck regulator input; Connect to a pi-filter (or if not used to battery) with short lines; connect filter capacitors in any case with short lines; connect a small ceramic directly at the pin; For details refer to Chapter 6. (See Datasheet)", 23 SEL_LDO2 (in) "Selection input LDO2; Connect to GND to select 2.6 V output voltage for LDO2; Connect straight to Q_LDO2 to select 3.3 V output voltage for LDO2.", 24 WDI (in) "Window Watchdog input; Apply a watchdog trigger signal to this pin", 25 ~{WDO} (oc) "Window Watchdog output; Open drain output, active low, connect external 10 k ohm pull-up resistor to microcontroller I/O voltage", 26 SW (power) "Buck power stage’s output; Connect both pins directly, on short lines, to the Buck converter circuit, i.e. the catch diode and the Buck inductance", 27 SW (power) "Buck power stage’s output; Connect both pins directly, on short lines, to the Buck converter circuit, i.e. the catch diode and the Buck inductance", 28 BST (power) "Bootstrap driver supply input; Connect the buck power stage’s driver supply capacitor to the SW pins;For capacitor selection please refer to Chapter 6.", 29 FB/L_IN (in) "Buck converter feedback input plus input for LDO1 and trackers; Connect the output of the buck converter circuit with short lines to these pins; For Buck output capacitor selection please refer to Chapter 6.", 30 Q_LDO1 (power) "Voltage regulator 1 output; 5 V output; Block to GND with capacitor for stable regulator operation; Selection of capacitor CQ_LDO1 according to Chapter 4.4 and Chapter 6.", 31 FB_EXT (in) "External regulator feedback input; Feedback input of control loop for the external power stage regulator. Connect to the emitter of the regulating transistor; Block to GND with capacitor for stable regulator operation; (See Datasheet)", 32 DRV_EXT (out) "Bipolar power stage driver output; Connect the base of an external NPN transistor directly to this pin; Regarding choice of the external power stage refer to Chapter 6.", 33 Q_STBY (power) "Stand-by regulator output; Output voltage depending on the state of SEL_STBY; Block to GND with capacitor for stable regulator operation; Selection of capacitor CQ_STBY according to Chapter 4.4 and Chapter 6.", 34 IN_STBY (in) "Input to stand-by regulator; Always connect the reverse polarity protected battery line to this pin; Input to all IC internal biasing circuits; Block to GND directly at the IC with ceramic capacitor; For proper choice of (See Datasheet)", 35 ~{MON_STBY} (oc) "Monitoring output for stand-by regulator; power fail active low output with special timing, open drain, connect external pull-up resistor."
part B pins: 1 GND_A (power) "Analog ground connection; Connect to heatslug resp. exposed pad.", 17 GND_P (power) "Power ground; Exclusive GND connection of charge pump; Connect this pin to the power ground star point on the PCB.", 18 GND_A (power) "Analog ground connection; Connect to exposed pad.", 19 GND_A (power) "Analog ground connection; Connect to exposed pad.", 36 GND_A (power) "Analog ground connection; Connect to exposed pad.", 37 EP (power)

## TLE7368E
designator U?
Next Generation Micro Controller Supply, -40 to 150 degC, PG-DSO-36-24, Reel, Green; Manufacturer: Infineon; PartNumber: TLE7368E; Green: TRUE; IQ (max): 2,500 mA; Iq (typ): 120 uA; Output: Linear (Buck Preregulator); Tolerance: 2%; VQ (max): 5 V, 3.3/2.6 V, 1.5 V, 1/2.6 V; DatasheetVersion: Rev. 2.1; PackageVersion: Apr-09; PackageReference: PG-DSO-36-24; PackageDescription: 36-Pin Plastic (Green) Dual Small Outline Package, 12.7 x 7.5 mm Body, 0.65 mm Pitch; Supplier 1: Mouser; Supplier Part Number 1: 726-TLE7368E; Supplier 2: Newark; Supplier Part Number 2: 78X5473; Supplier 3: Farnell; Supplier Part Number 3: 2432523; Supplier 4: Digi-Key; Supplier Part Number 4: TLE7368ETR-ND; Supplier 5: Digi-Key; Supplier Part Number 5: TLE7368ECT-ND; Supplier 6: Digi-Key; Supplier Part Number 6: TLE7368EDKR-ND; Halogen-free: TRUE; Packing: Reel; Mounting Technology: Surface Mount; ComponentLink1Description: Manufacturer URL; ComponentLink1URL: http://www.infineon.com/; ComponentLink2Description: Datasheet; ComponentLink2URL: http://www.infineon.com/dgdl/DCDC-Converter-TLE7368-Data-Sheet-V21-Infineon.pdf?folderId=db3a304314dca3890115039cf70d0bf0&fileId=db3a3043163797a601163918026f01cf&location=en.Products.Power_Management_ICs.DC_DC.DC_DC-Converter__Automotive_.DATASHEET.DCDC-Converter-TLE7368-Data-Sheet-V21-Infineon.pdf; ComponentLink3Description: Package Specification; ComponentLink3URL: http://www.infineon.com/dgdl/PG-DSO-36-24%2C-38%2C-41%2C-42%2C-50-Package_Overview.pdf?folderId=db3a304316f66ee801179ce26c705f4a&fileId=db3a304319c6f18c011a3ac6ea200605
footprint INF-PG-DSO-36-24_N (SOP, 36-Leads, Body 12.7x7.5mm, Pitch 0.65mm, Thermal Pad 7x5.1mm, IPC Medium Density)
footprint INF-PG-DSO-36-24_L (SOP, 36-Leads, Body 12.7x7.5mm, Pitch 0.65mm, Thermal Pad 7x5.1mm, IPC High Density)
footprint INF-PG-DSO-36-24_M (SOP, 36-Leads, Body 12.7x7.5mm, Pitch 0.65mm, Thermal Pad 7x5.1mm, IPC Low Density)
part A pins: 2 RT (in) "Reset and watchdog timing pin; Connect a ceramic capacitor to GND to determine the time base for the  reset delay circuits and the watchdog cycle time", 3 ~{RO_1} (oc) "Reset output Q_LDO1; Open drain output, active low.  Connect an external 10 k ohm pull-up resistor to microcontroller I/O  voltage.", 4 ~{RO_2} (oc) "Reset output Q_LDO2 and FB_EXT; Open drain output, active low.  Connect an external 10 k ohm pull-up resistor to microcontroller I/O  voltage", 5 IN_LDO2 (power) "LDO2 input; Connect this pin straight to the Buck converter output or add a dropper  in between to reduce power dissipation on the chip.", 6 Q_LDO2 (power) "Voltage regulator 2 output; 3.3 V or 2.6 V, depending on the state of SEL_LDO2.  Block to GND with capacitor for stable regulator operation; selection of  capacitor C Q_LDO2 according to Chapter 4.4 and Chapter 6.", 7 Q_T1 (power) "Tracking regulator 1 output; Block to GND with capacitor for stable regulator operation; selection of  capacitor C Q_T1 according to Chapter 4.4 and Chapter 6.", 8 Q_T2 (power) "Tracking regulator 2 output; Block to GND with capacitor for stable regulator operation; selection of  capacitor C Q_T2 according to Chapter 4.4 and Chapter 6.", 9 EN_uC (in) "Enable input microcontroller; High level enables / low level disables the IC except the stand-by  regulators; Integrated pull-down resistor", 10 EN_IGN (in) "Enable input ignition line; High level enables / low level disables the IC except the stand-by  regulators; Integrated pull-down resistor", 11 SEL_STBY (in) "Selection input for stand-by regulator;  Connect to GND to select 2.6 V output voltage for Q_STBY;  Connect straight to Q_STBY to select 1.0 V output voltage for Q_STBY", 12 C1- "Charge pump negative #1; Connect a ceramic capacitor 100 nF, to C1+", 13 C2- "Charge pump negative #2; Connect a ceramic capacitor 100 nF, to C2+", 14 C1+ "Charge pump positive #1; Connect a ceramic capacitor 100 nF, to C1-", 15 C2+ "Charge pump positive #2; Connect a ceramic capacitor 100 nF, to C2-", 16 CCP (power) "Charge pump output; Connect a ceramic capacitor, 220 nF, to GND;  Used for internal IC supply, do not use for other circuitry.", 20 IN (power) "Buck regulator input; Connect to a pi-filter (or if not used to battery) with short lines; connect  filter capacitors in any case with short lines; connect a small ceramic  directly at the pin; For details refer to Chapter 6.(See Datasheet)", 21 IN (power) "Buck regulator input; Connect to a pi-filter (or if not used to battery) with short lines; connect  filter capacitors in any case with short lines; connect a small ceramic  directly at the pin; For details refer to Chapter 6.(See Datasheet)", 22 IN (power) "Buck regulator input; Connect to a pi-filter (or if not used to battery) with short lines; connect  filter capacitors in any case with short lines; connect a small ceramic  directly at the pin; For details refer to Chapter 6.(See Datasheet)", 23 SEL_LDO2 (in) "Selection input LDO2; Connect to GND to select 2.6 V output voltage for LDO2;  Connect straight to Q_LDO2 to select 3.3 V output voltage for LDO2.", 24 WDI (in) "Window Watchdog input; Apply a watchdog trigger signal to this pin", 25 ~{WDO} (oc) "Window Watchdog output; Open drain output, active low,  connect external 10 k ohm pull-up resistor to microcontroller I/O voltage", 26 SW (power) "Buck power stage’s output; Connect both pins directly, on short lines, to the Buck converter circuit,  i.e. the catch diode and the Buck inductance", 27 SW (power) "Buck power stage’s output; Connect both pins directly, on short lines, to the Buck converter circuit,  i.e. the catch diode and the Buck inductance", 28 BST (power) "Bootstrap driver supply input; Connect the buck power stage’s driver supply capacitor to the SW pins;  For capacitor selection please refer to Chapter 6.", 29 FB/L_IN (in) "Buck converter feedback input plus input for LDO1 and trackers; Connect the output of the buck converter circuit with short lines to these  pins; For Buck output capacitor selection please refer to Chapter 6.", 30 Q_LDO1 (power) "Voltage regulator 1 output; 5 V output; Block to GND with capacitor for stable regulator operation;  Selection of capacitor C Q_LDO1 according to Chapter 4.4 and  Chapter 6.", 31 FB_EXT (in) "External regulator feedback input; Feedback input of control loop for the external power stage regulator.  Connect to the emitter of the regulating transistor; Block to GND with  capacitor for stable regulator operation; (See Datasheet)", 32 DRV_EXT (out) "Bipolar power stage driver output; Connect the base of an external NPN transistor directly to this pin;  Regarding choice of the external power stage refer to Chapter 6.", 33 Q_STBY (power) "Stand-by regulator output; Output voltage depending on the state of SEL_STBY; Block to GND  with capacitor for stable regulator operation; Selection of capacitor  C Q_STBY according to Chapter 4.4 and Chapter 6.", 34 IN_STBY (power) "Input to stand-by regulator; Always connect the reverse polarity protected battery line to this pin;  Input to all IC internal biasing circuits;  Block to GND directly at the IC with ceramic capacitor; For proper  choice of (See Datasheet)", 35 ~{MON_STBY} (oc) "Monitoring output for stand-by regulator; power fail active low  output with special timing, open drain, connect external pull-up resistor."
part B pins: 1 GND_A (power) "Analog ground connection; Connect to heatslug resp. exposed pad.", 17 GND_P (power) "Power ground; Exclusive GND connection of charge pump;  Connect this pin to the power ground star point on the PCB.", 18 GND_A (power) "Analog ground connection; Connect to exposed pad.", 19 GND_A (power) "Analog ground connection; Connect to exposed pad.", 36 GND_A (power) "Analog ground connection; Connect to exposed pad.", 37 EP (power)

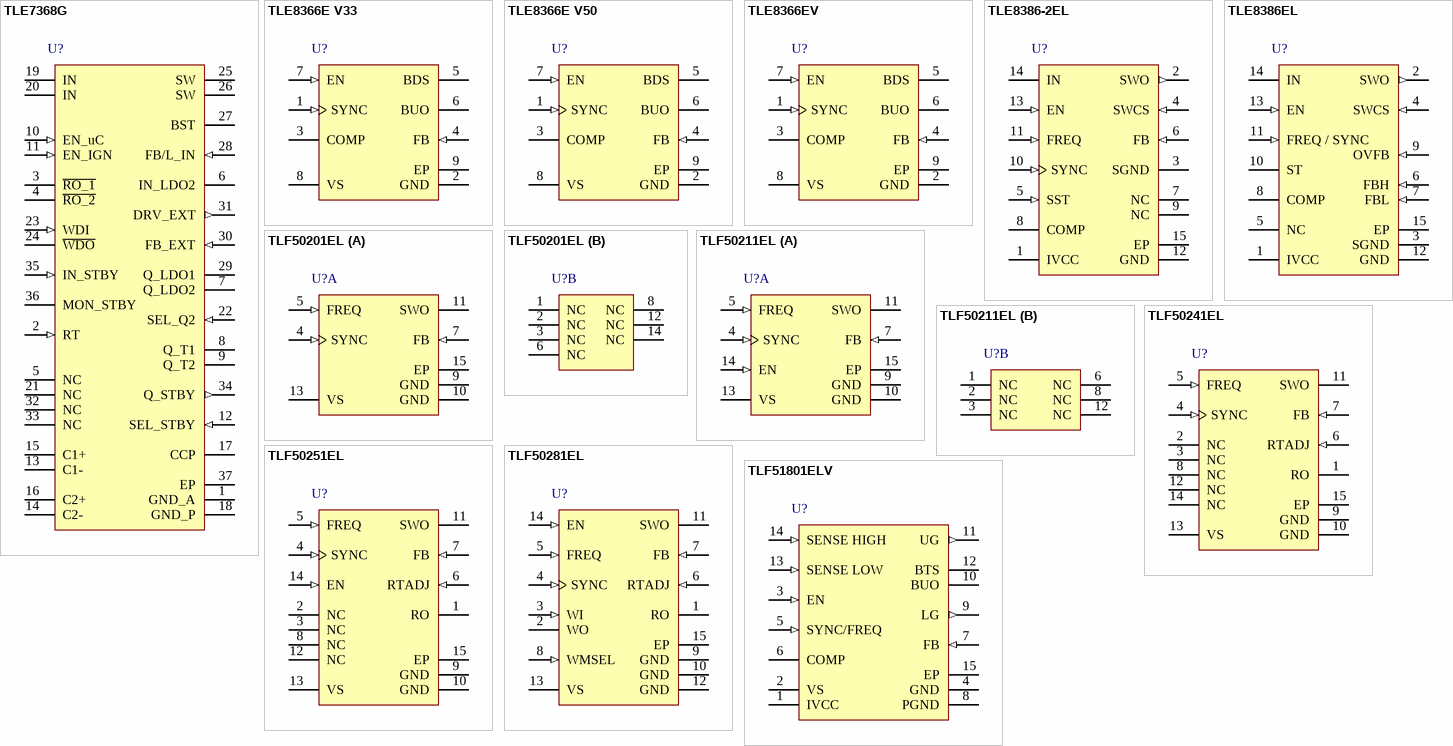
[diagram p1: symbols TLE7368G to TLF51801ELV]